# Altium footprint library COM.PcbLib: 4 footprints
Each footprint in its own frame and in the unit in brackets; x right, y up, seen from the top. Pads: shape width x height; smd on the part's side, far side on the other; paste and mask are expansions set on the pad; w line width, h text height; cw(c..) or ccw(c..) is an arc to the next point about the centre after c.
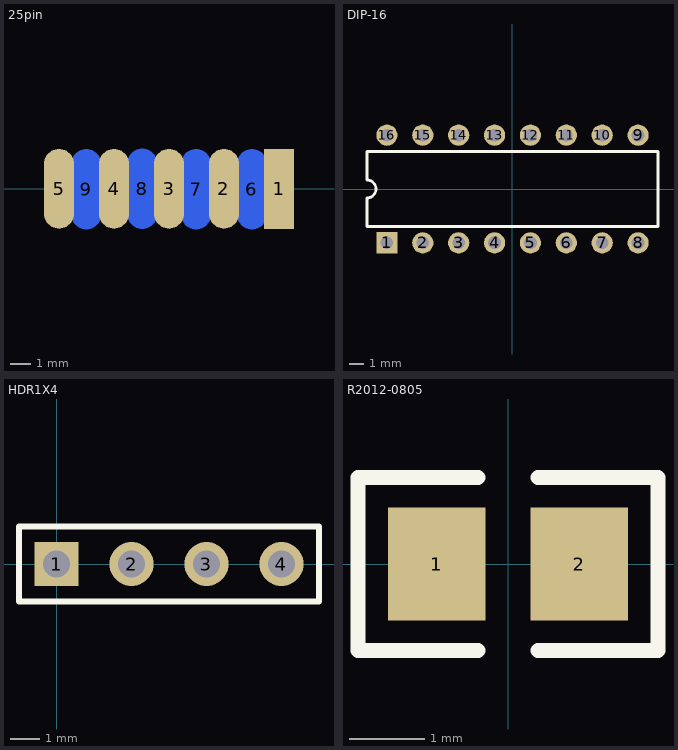
[diagram p0: the footprints below, top view; thin cyan lines are the x and y axes]

## 25pin [mm]
height 12.93
pads (9):
  rect 1.5x4 smd: 1(33,0)
  oval 1.5x4 smd: 2(30.25,0) 3(27.5,0) 4(24.75,0) 5(22,0)
  oval 1.5x4 smd far side: 6(31.648,-0.025) 7(28.854,-0.025) 8(26.162,0) 9(23.368,-0.025)

## DIP-16 [mm]
pads (16):
  rect 1.5x1.5 hole 0.9: 1(-8.89,-3.81)
  round 1.5 hole 0.9: 2(-6.35,-3.81) 3(-3.81,-3.81) 4(-1.27,-3.81) 5(1.27,-3.81) 6(3.81,-3.81) 7(6.35,-3.81) 8(8.89,-3.81) 9(8.89,3.81) 10(6.35,3.81) 11(3.81,3.81) 12(1.27,3.81) 13(-1.27,3.81) 14(-3.81,3.81) 15(-6.35,3.81) 16(-8.89,3.81)
Top Overlay:
  lines w0.2: -10.3,-2.65 -10.3,-0.635 ccw(c-10.3,0) -10.3,0.635 -10.3,2.65 10.3,2.65 10.3,-2.65 -10.3,-2.65

## HDR1X4 [mm] "Connector; Header; 4 Position"
pads (4):
  rect 1.5x1.5 hole 0.9: 1(0,0)
  round 1.5 hole 0.9: 2(2.54,0) 3(5.08,0) 4(7.62,0)
Top Overlay:
  lines w0.2: -1.27,-1.27 8.89,-1.27 8.89,1.27 -1.27,1.27 -1.27,-1.27

## R2012-0805 [mm]
pads (2):
  rect 1.3x1.5 smd: 1(-0.95,0) 2(0.95,0)
Top Overlay:
  lines w0.2: -0.4,-1.15 -2,-1.15 -2,1.15 -0.4,1.15 ; 0.4,-1.15 2,-1.15 2,1.15 0.4,1.15